# Altium schematic symbol library AO4402.SchLib: 1 symbol
Pins are listed as number, name and electrical type; pins without a type are passive.

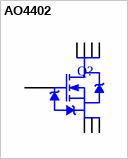
[diagram p0: symbol AO4402]

## AO4402
designator Q?
N-CH 20V 20A
pins: 1 4, 2 8, 3 7, 4 G, 5 D, 6 D, 7 D, 8 D